# Altium schematic symbol library SY8088AAC.SCHLIB: 1 symbol
Pins are listed as number, name and electrical type; pins without a type are passive.

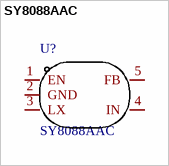
[diagram p0: symbol SY8088AAC]

## SY8088AAC
designator U?
Manufacturer: silergy(矽力杰); Add into BOM: yes; Function: 降压型; Switch tube (built-in/external): 内置; Symbol: SY8088AAC; Device: SY8088AAC; LCSC Part Name: SY8088AAC; Supplier Part: C79313; Manufacturer Part: SY8088AAC; Supplier Footprint: SOT-23-5; JLCPCB Part Class: 扩展库; Datasheet: https://atta.szlcsc.com/upload/public/pdf/source/20170329/1490752163260.pdf; Supplier: LCSC; Convert to PCB: yes; Input Voltage: -; Output Current (Max): -; Switching Frequency: -; Synchronous Rectification: -; Number of Outputs: -; Topology: -; Name: SY8088AAC
footprint SOT-23-5_L3.0-W1.7-P0.95-LS2.8-BR
pins: 1 EN, 2 GND, 3 LX, 4 IN, 5 FB